# EAGLE library part MAX9924UAUB+ (library LoganSmith-Analog_IC)
Variable-Reluctance Sensor Interface with Differential Input and Adaptive Peak Threshold MAX9924-MAX9927 Datasheet <http://datasheets.maximintegrated.com/en/ds/MAX9924-MAX9927.pdf> Note: There are technically two versions of this IC: UAUB+ and UAUB/V+. I have not figured out the difference yet which is why the device is currently named UAUB+. If I figure it out, I will create two different technologies for it. Optional attributes to include: CURRENT_SUPPLY: 5 mA OUTPUT_TYPE: Logic
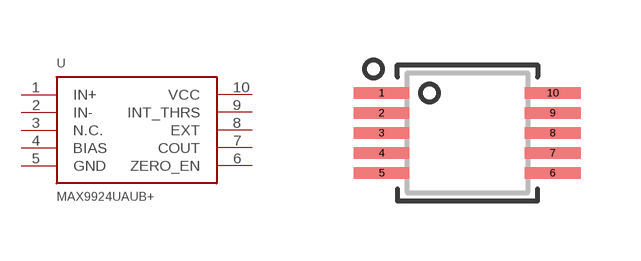
[diagram p0: symbol with the pads of UMAX-10; footprint UMAX-10]

Designator prefix U

## MAX9924UAUB+ (DIGIKEY_OC: MAX9924UAUB+-ND; MFR: Maxim Integrated; MPN: MAX9924UAUB+; TEMP_RANGE: -40C to 125C)  [UMAX-10]
1  IN+
2  IN-
3  N.C.
4  BIAS
5  GND
6  ZERO_EN
7  COUT
8  EXT
9  INT_THRS
10  VCC

## Footprint UMAX-10 (pad centres in mm)
smd 1.4 x 0.28: 1 -2.1,1; 2 -2.1,0.5; 3 -2.1,0; 4 -2.1,-0.5; 5 -2.1,-1; 6 2.18,-1; 7 2.18,-0.5; 8 2.18,0; 9 2.18,0.5; 10 2.18,1